# EAGLE library part FPF2700 (library flippie)
AccuPower 0.4~2 A Adjustable Over-Current Protection Load Switch
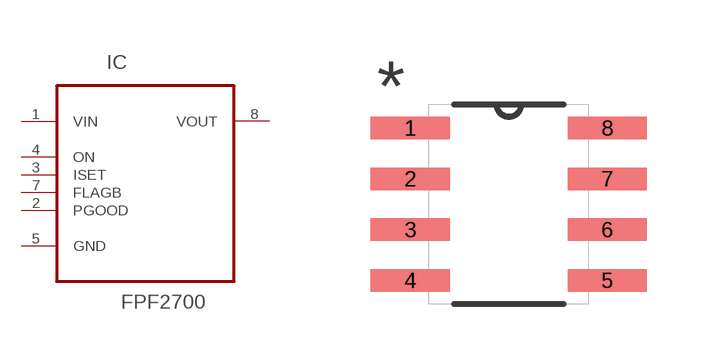
[diagram p1: symbol with the pads of SOIC127P600X175-8N; footprint SOIC127P600X175-8N]

Designator prefix IC

## FPF2700 (PACKAGE: SOIC-8; SUPPLIER: ON Semiconductor)  [SOIC127P600X175-8N]
1  VIN  pwr
2  PGOOD  out
3  ISET  in
4  ON  in
5  GND  pas
7  FLAGB  out
8  VOUT  pwr

## Footprint SOIC127P600X175-8N (pad centres in mm)
smd 1.981 x 0.559: 1 -2.464,1.905; 2 -2.464,0.635; 3 -2.464,-0.635; 4 -2.464,-1.905; 5 2.464,-1.905; 6 2.464,-0.635; 7 2.464,0.635; 8 2.464,1.905